# EAGLE library part LTC2850CDD#PBF (library LTC2850CDD#PBF)
Linear Technology LTC2850CDD#PBF, Line Transceiver, TIA/EIA-485-A, 3.3 V, 8-Pin DFN Source: Datasheet <https://www.analog.com/media/en/technical-documentation/data-sheets/285012fe.pdf>
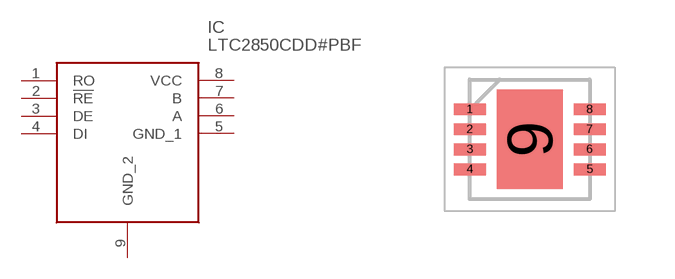
[diagram p0: symbol with the pads of SON50P300X300X80-9N; footprint SON50P300X300X80-9N]

Designator prefix IC

## LTC2850CDD#PBF (ARROW_PART_NUMBER: LTC2850CDD#PBF; ARROW_PRICE-STOCK: https://www.arrow.com/en/products/ltc2850cddpbf/linear-technology; DESCRIPTION: Linear Technology LTC2850CDD#PBF, Line Transceiver, TIA/EIA-485-A, 3.3 V, 8-Pin DFN; HEIGHT: 0.8mm; MANUFACTURER_NAME: Linear Technology; MANUFACTURER_PART_NUMBER: LTC2850CDD#PBF)  [SON50P300X300X80-9N]
1  RO
2  !RE
3  DE
4  DI
5  GND_1
6  A
7  B
8  VCC
9  GND_2

## Footprint SON50P300X300X80-9N (pad centres in mm)
DD Package 8-Lead Plastic DFN (3mm 3mm)
smd 0.8 x 0.3: 1 -1.5,0.75; 2 -1.5,0.25; 3 -1.5,-0.25; 4 -1.5,-0.75; 5 1.5,-0.75; 6 1.5,-0.25; 7 1.5,0.25; 8 1.5,0.75
smd 1.65 x 2.48: 9 0,0